# Altium footprint library TSOP_65P_N.PcbLib: 18 footprints (part 2 of 2)
Each footprint in its own frame and in the unit in brackets; x right, y up, seen from the top. Pads: shape width x height; smd on the part's side, far side on the other; paste and mask are expansions set on the pad; w line width, h text height; cw(c..) or ccw(c..) is an arc to the next point about the centre after c.
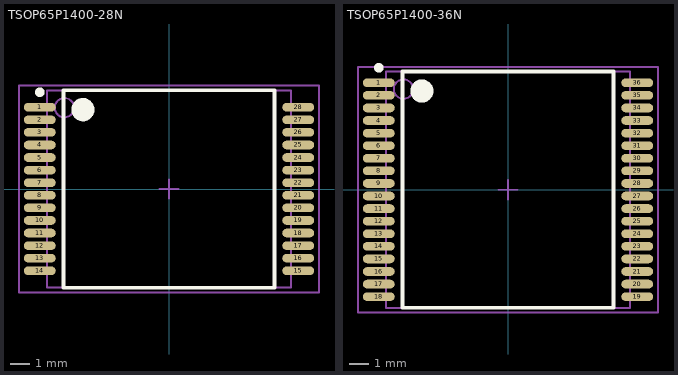
[diagram p1: the footprints below, top view; thin cyan lines are the x and y axes]

## TSOP65P1400-28N [mm] "TSOP, 28-Leads, Body 10.2x12.6mm, Pitch 0.65mm, IPC Medium Density"
height 1.27
pads (28):
  oval 1.65x0.45 smd: 1(-6.675,4.225) 2(-6.675,3.575) 3(-6.675,2.925) 4(-6.675,2.275) 5(-6.675,1.625) 6(-6.675,0.975) 7(-6.675,0.325) 8(-6.675,-0.325) 9(-6.675,-0.975) 10(-6.675,-1.625) 11(-6.675,-2.275) 12(-6.675,-2.925) 13(-6.675,-3.575) 14(-6.675,-4.225) 15(6.675,-4.225) 16(6.675,-3.575) 17(6.675,-2.925) 18(6.675,-2.275) 19(6.675,-1.625) 20(6.675,-0.975) 21(6.675,-0.325) 22(6.675,0.325) 23(6.675,0.975) 24(6.675,1.625) 25(6.675,2.275) 26(6.675,2.925) 27(6.675,3.575) 28(6.675,4.225)
Top Overlay:
  circle w0.25: c-6.675,5 r0.125
  circle w0.6: c-4.45,4.1 r0.3
  lines w0.2: -5.45,-5.1 -5.45,5.1 5.45,5.1 5.45,-5.1 -5.45,-5.1
Mechanical 13:
  circle w0.1: c-5.4,4.2 r0.5
  lines w0.1: -6.3,-5.1 -6.3,5.1 6.3,5.1 6.3,-5.1 -6.3,-5.1
Mechanical 15:
  lines w0.1: -0.5,0 0.5,0 ; 0,-0.5 0,0.5 ; -7.75,-5.35 -7.75,5.35 7.75,5.35 7.75,-5.35 -7.75,-5.35
3D body: height 1.27, standoff 0, extent -6.3,-5.1 6.3,5.1

## TSOP65P1400-36N [mm] "TSOP, 36-Leads, Body 12.2x12.6mm, Pitch 0.65mm, IPC Medium Density"
height 1.27
pads (36):
  oval 1.65x0.45 smd: 1(-6.675,5.525) 2(-6.675,4.875) 3(-6.675,4.225) 4(-6.675,3.575) 5(-6.675,2.925) 6(-6.675,2.275) 7(-6.675,1.625) 8(-6.675,0.975) 9(-6.675,0.325) 10(-6.675,-0.325) 11(-6.675,-0.975) 12(-6.675,-1.625) 13(-6.675,-2.275) 14(-6.675,-2.925) 15(-6.675,-3.575) 16(-6.675,-4.225) 17(-6.675,-4.875) 18(-6.675,-5.525) 19(6.675,-5.525) 20(6.675,-4.875) 21(6.675,-4.225) 22(6.675,-3.575) 23(6.675,-2.925) 24(6.675,-2.275) 25(6.675,-1.625) 26(6.675,-0.975) 27(6.675,-0.325) 28(6.675,0.325) 29(6.675,0.975) 30(6.675,1.625) 31(6.675,2.275) 32(6.675,2.925) 33(6.675,3.575) 34(6.675,4.225) 35(6.675,4.875) 36(6.675,5.525)
Top Overlay:
  circle w0.25: c-6.675,6.3 r0.125
  circle w0.6: c-4.45,5.1 r0.3
  lines w0.2: -5.45,-6.1 -5.45,6.1 5.45,6.1 5.45,-6.1 -5.45,-6.1
Mechanical 13:
  circle w0.1: c-5.4,5.2 r0.5
  lines w0.1: -6.3,-6.1 -6.3,6.1 6.3,6.1 6.3,-6.1 -6.3,-6.1
Mechanical 15:
  lines w0.1: -0.5,0 0.5,0 ; 0,-0.5 0,0.5 ; -7.75,-6.35 -7.75,6.35 7.75,6.35 7.75,-6.35 -7.75,-6.35
3D body: height 1.27, standoff 0, extent -6.3,-6.1 6.3,6.1